# EAGLE library part MC10-G (library con-phoenix-381_l)
Mini-Combicon 3.81mm horizontal 10-polig (mit Gegenstecker)
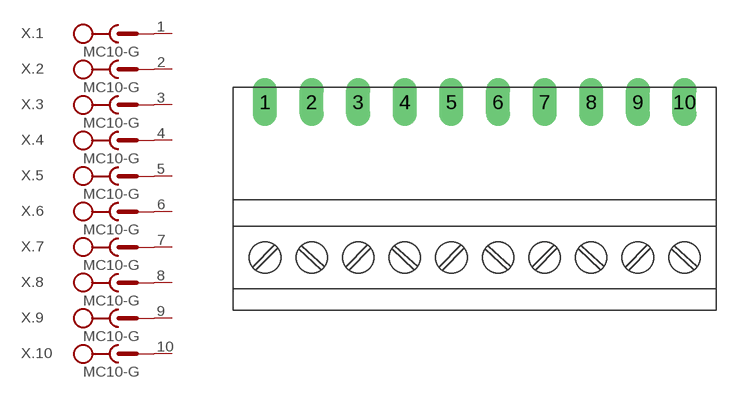
[diagram p17: symbol with the pads of MC10-G; footprint MC10-G]

Designator prefix X; gates .1=SK+V .2=SK+V .3=SK+V .4=SK+V .5=SK+V .6=SK+V .7=SK+V .8=SK+V .9=SK+V .10=SK+V

## MC10-G  [MC10-G]
1  .1:SK  pas
2  .2:SK  pas
3  .3:SK  pas
4  .4:SK  pas
5  .5:SK  pas
6  .6:SK  pas
7  .7:SK  pas
8  .8:SK  pas
9  .9:SK  pas
10  .10:SK  pas

## Footprint MC10-G (pad centres in mm)
Mini-Combicon 3.81mm horizontal 10-polig (mit Gegenstecker)
drill 1.3 long: 1 -17.145,0; 2 -13.335,0; 3 -9.525,0; 4 -5.715,0; 5 -1.905,0; 6 1.905,0; 7 5.715,0; 8 9.525,0; 9 13.335,0; 10 17.145,0